# Altium schematic symbol library lab4.SCHLIB: 31 symbols
Pins are listed as number, name and electrical type; pins without a type are passive.

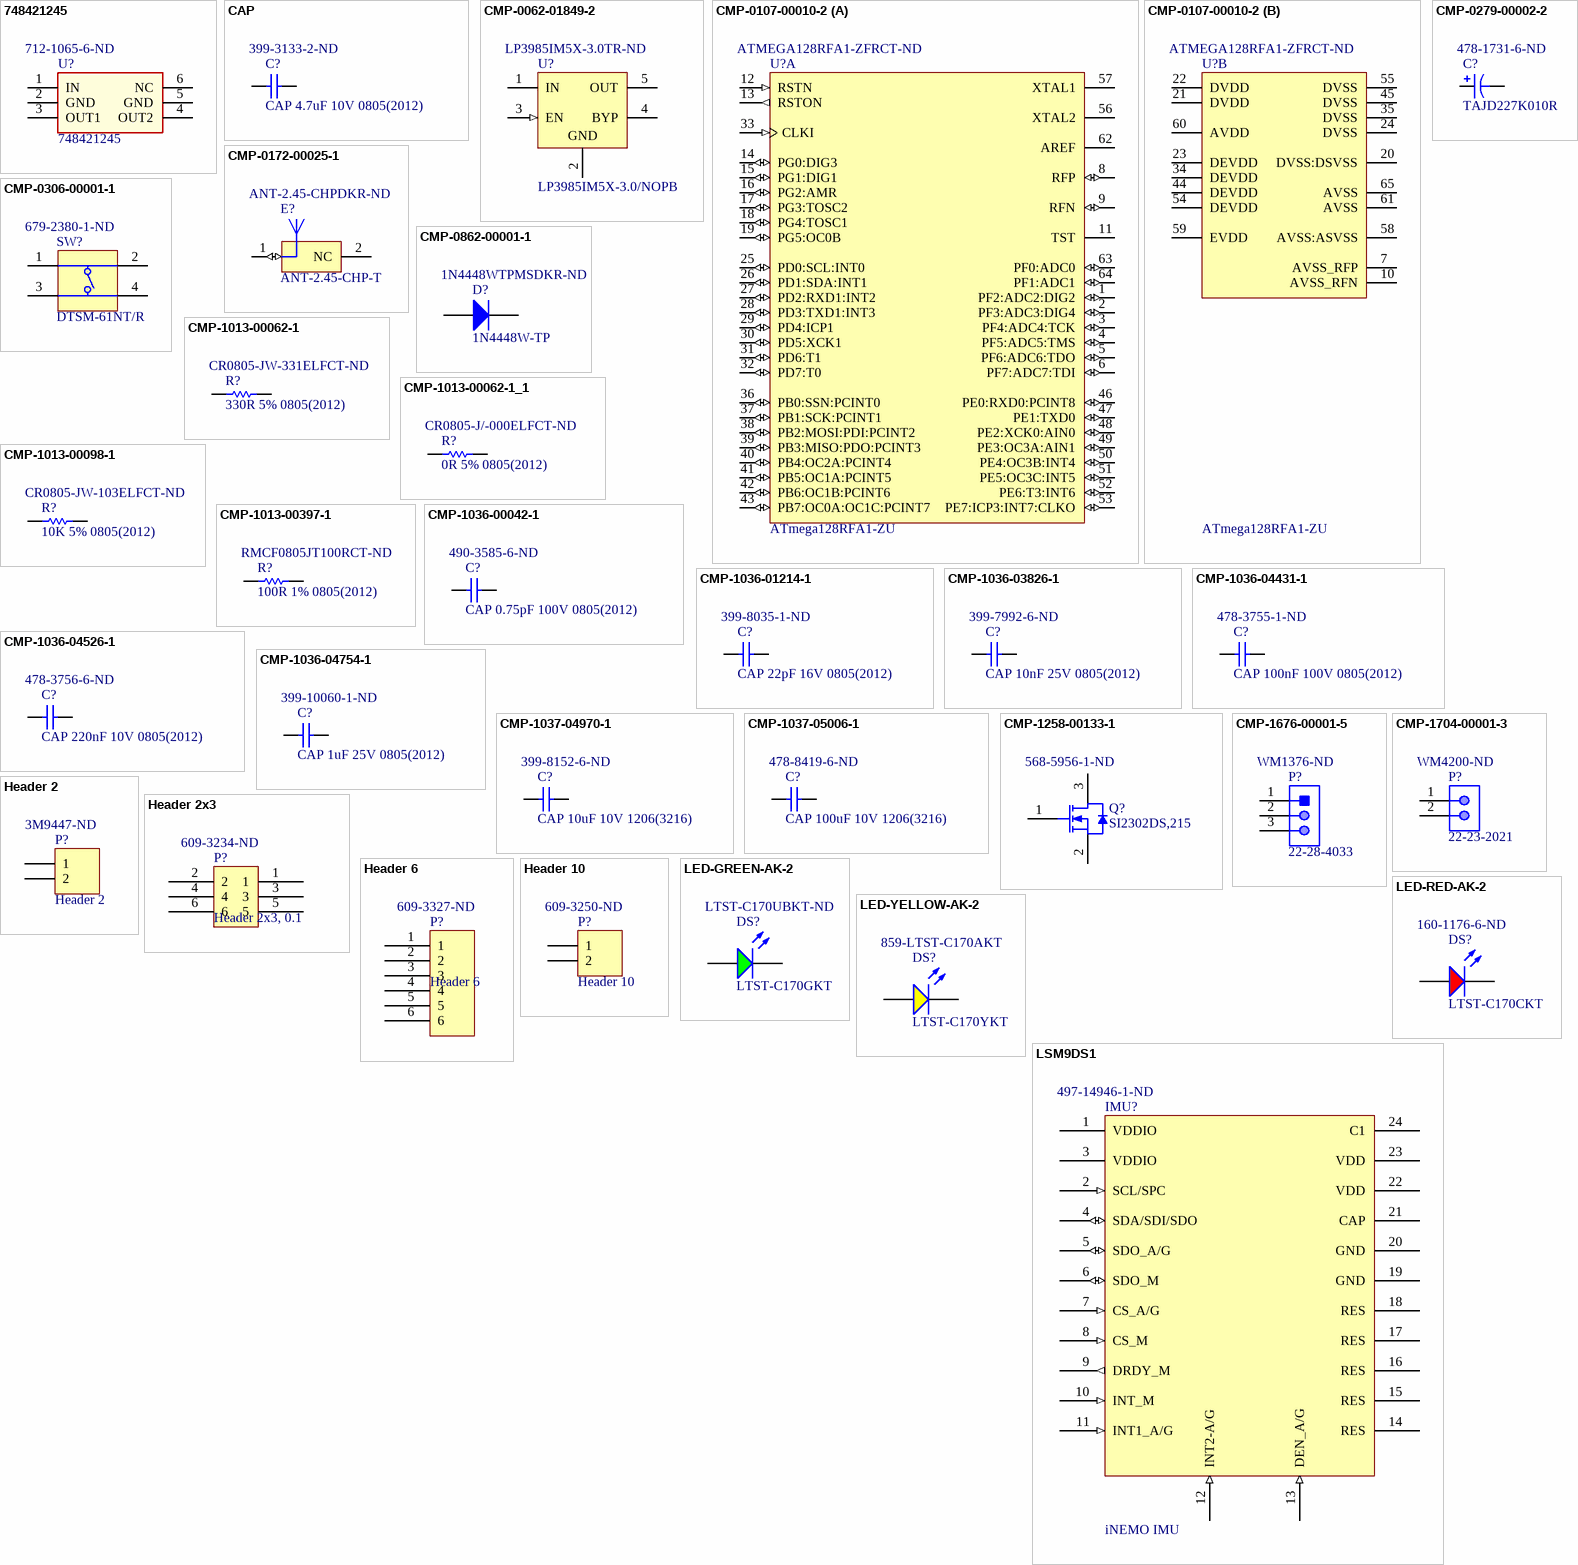
[diagram p0: symbols 748421245 to LSM9DS1]

## 748421245
designator U?  Supplier Part Number 1: 712-1065-6-ND
WE-BAL Multilayer Chip Balun, size 0805; BalancedImpedance: 100Ω; Frequence: 2400-2500MHz; PublishedDate: Aug 2016; Publisher: Wurth Elektronik; ComponentLink1Description: Manufacturer; ComponentLink1URL: http://www.we-online.de; ComponentLink2Description: Datasheet; ComponentLink2URL: http://katalog.we-online.de/pbs/datasheet/748421245.pdf; PartNumber: 748421245; Size: 0805; Supplier 1: Digikey
footprint WE-BAL_0805
pins: 1 IN, 2 GND, 3 OUT1, 4 OUT2, 5 GND, 6 NC

## CAP
designator C?, comment CAP 4.7uF 10V 0805(2012)  Supplier Part Number 1: 399-3133-2-ND
CAP 4.7uF 10V ±10% 0805 (2012 Metric) Thickness 1.55mm SMD; Case-EIA: 0805; Tolerance: Â±10%; Case-Metric: 2012; Rated Voltage: 10 V; Max Thickness: 1.55 mm; Technology: SMT; Value: 4.7uF; Supplier 1: Digikey
footprint CAPC0805(2012)155_L (Chip Capacitor, Body 2.0x1.2mm, Height 1.55mm, IPC High Density)
footprint CAPC0805(2012)155_N (Chip Capacitor, Body 2.0x1.2mm, Height 1.55mm, IPC Medium Density)
footprint CAPC0805(2012)155_M (Chip Capacitor, Body 2.0x1.2mm, Height 1.55mm, IPC Low Density)
pins: 1, 2
1 alternate drawing of the same symbol

## CMP-0062-01849-2
designator U?, comment LP3985IM5X-3.0/NOPB  Supplier Part Number 1: LP3985IM5X-3.0TR-ND
Micropower, 150mA Low-Noise Ultra Low-Dropout CMOS Voltage Regulator, 5-pin SOT-23, Pb-Free; Manufacturer: National Semiconductor; CompType: LDO IC; PowerWise: N; PackageTopMarking: LCRB*XTT; PackageVersion: revD, Aug-2008; DatasheetVersion: Aug-2005; ComponentLink2Description: LP3985 Web Page; RevisionNote: Component URLs added; ComponentLink3Description: MF05A Package Page; ComponentLink2URL: http://www.national.com/pf/LP/LP3985.html; ComponentLink1URL: http://www.national.com/ds/LP/LP3985.pdf; PinCount: 5; PackageDescription: Molded SOT-23, .115 x .063 x .040 in Body, 5 Lead, .0375 in Pitch; ComponentLink1Description: LP3985 Datasheet; RoHS: Y; ComponentLink3URL: http://www.national.com/packaging/folders/mf05a.html; PackageReference: MF05A; Supplier 1: Digikey
footprint MF05A_L (SOT23, 5-Leads, Body 2.9x1.6mm, Pitch 0.95mm, Lead Span 2.8mm, IPC High Density)
footprint MF05A_N (SOT23, 5-Leads, Body 2.9x1.6mm, Pitch 0.95mm, Lead Span 2.8mm, IPC Medium Density)
footprint MF05A_M (SOT23, 5-Leads, Body 2.9x1.6mm, Pitch 0.95mm, Lead Span 2.8mm, IPC Low Density)
pins: 1 IN (power), 2 GND (power), 3 EN (in), 4 BYP, 5 OUT (power)

## CMP-0107-00010-2
designator U?, comment ATmega128RFA1-ZU  Supplier Part Number 1: ATMEGA128RFA1-ZFRCT-ND
8-bit AVR Microcontroller with Low Power 2.4GHz Transceiver for ZigBee and IEEE 802.15.4, 64-Pin VQFN (Sawn) (PI64), Industrial (-40°C to 85°C); Timers: 6; Transmit Current Consumption (mA): 18.6; Power Output (dBm): 3.5; UART: 1; External PA Control: Yes; Receive Current Consumption (mA): 16.6; Max. Operating Frequency: 16 MHz; Max I/O Pins: 38; ADC Resolution (bits): 10; Max Data Rate (Mb/s): 2; ADC channels: 8; Operating Voltage (Vcc): 1.8 to 3.6; Receiver Sensitivity (dBm): -100; Crypto Engine: AES; Flash (Kbytes): 128 Kbytes; EEPROM (Bytes): 4096; SRAM (Kbytes): 16; Link Budget (dBm): 103.5; PackageDescription: 64-Pin Quad Flat No-Lead (QFN), 9 x 9 mm Body, 0.5 mm Pitch, 5.65 x 4.75 mm Exposed Pad; Frequency Band: 2.4 GHz; PackageReference: 64PI; PackageVersion: revA, Feb-2008; RevisionNote: Updated to Oct-2011 datasheet, symbol revised, parameters added; ComponentLink1Description: Manufacturer URL; ComponentLink2URL: http://www.atmel.com/Images/doc8266.pdf; ComponentLink2Description: Datasheet; ComponentLink1URL: http://www.atmel.com/; SPI: 1; DatasheetVersion: rev C, Oct-2011; Antenna Diversity: Yes; Analog Comparators: 1; TWI (I2C): 1; PartId: 1; Supplier 1: Digikey
footprint 64PI_N (QFN, 64-Leads, Body 9x9mm, Pitch 0.5mm, Thermal Pad 5.8x4.9mm, IPC Medium Density)
footprint 64PI_M (QFN, 64-Leads, Body 9x9mm, Pitch 0.5mm, Thermal Pad 5.8x4.9mm, IPC Low Density)
footprint 64PI_L (QFN, 64-Leads, Body 9x9mm, Pitch 0.5mm, Thermal Pad 5.8x4.9mm, IPC High Density)
part A pins: 1 PF2:ADC2:DIG2 (io) "Port F is an 8-bit bi-directional I/O port with internal pull-up resistors (selected for each bit). The Port F output buffers have symmetrical drive characteristics with both high sink and source capability. As inputs, Port F pins that are externally pul", 2 PF3:ADC3:DIG4 (io) "Port F is an 8-bit bi-directional I/O port with internal pull-up resistors (selected for each bit). The Port F output buffers have symmetrical drive characteristics with both high sink and source capability. As inputs, Port F pins that are externally pul", 3 PF4:ADC4:TCK (io) "Port F is an 8-bit bi-directional I/O port with internal pull-up resistors (selected for each bit). The Port F output buffers have symmetrical drive characteristics with both high sink and source capability. As inputs, Port F pins that are externally pul", 4 PF5:ADC5:TMS (io) "Port F is an 8-bit bi-directional I/O port with internal pull-up resistors (selected for each bit). The Port F output buffers have symmetrical drive characteristics with both high sink and source capability. As inputs, Port F pins that are externally pul", 5 PF6:ADC6:TDO (io) "Port F is an 8-bit bi-directional I/O port with internal pull-up resistors (selected for each bit). The Port F output buffers have symmetrical drive characteristics with both high sink and source capability. As inputs, Port F pins that are externally pul", 6 PF7:ADC7:TDI (io) "Port F is an 8-bit bi-directional I/O port with internal pull-up resistors (selected for each bit). The Port F output buffers have symmetrical drive characteristics with both high sink and source capability. As inputs, Port F pins that are externally pul", 8 RFP (io) "RFP is the positive terminal for the bi-directional, differential RF I/O port", 9 RFN (io) "RFN is the negative terminal for the bi-directional, differential RF I/O port.", 11 TST "Programming and test mode enable pin. If pin TST is not used pull it to low.", 12 RSTN (in) "Reset input. A low level on this pin for longer than the minimum pulse length will generate a reset, even if the clock is not running. Shorter pulses are not guaranteed to generate a reset.", 13 RSTON (out) "Reset output. A low level on this pin indicates a reset initiated by the internal reset sources or the pin RSTN.", 14 PG0:DIG3 (io) "Port G is a 6-bit bi-directional I/O port with internal pull-up resistors (selected for each bit). The Port G output buffers have symmetrical drive characteristics with both high sink and source capability. However the driver strength of PG3 and PG4 is r", 15 PG1:DIG1 (io) "Port G is a 6-bit bi-directional I/O port with internal pull-up resistors (selected for each bit). The Port G output buffers have symmetrical drive characteristics with both high sink and source capability. However the driver strength of PG3 and PG4 is r", 16 PG2:AMR (io) "Port G is a 6-bit bi-directional I/O port with internal pull-up resistors (selected for each bit). The Port G output buffers have symmetrical drive characteristics with both high sink and source capability. However the driver strength of PG3 and PG4 is r", 17 PG3:TOSC2 (io) "Port G is a 6-bit bi-directional I/O port with internal pull-up resistors (selected for each bit). The Port G output buffers have symmetrical drive characteristics with both high sink and source capability. However the driver strength of PG3 and PG4 is r", 18 PG4:TOSC1 (io) "Port G is a 6-bit bi-directional I/O port with internal pull-up resistors (selected for each bit). The Port G output buffers have symmetrical drive characteristics with both high sink and source capability. However the driver strength of PG3 and PG4 is r", 19 PG5:OC0B (io) "Port G is a 6-bit bi-directional I/O port with internal pull-up resistors (selected for each bit). The Port G output buffers have symmetrical drive characteristics with both high sink and source capability. However the driver strength of PG3 and PG4 is r", 25 PD0:SCL:INT0 (io) "Port D is an 8-bit bi-directional I/O port with internal pull-up resistors (selected for each bit). The Port D output buffers have symmetrical drive characteristics with both high sink and source capability. As inputs, Port D pins that are externally pul", 26 PD1:SDA:INT1 (io) "Port D is an 8-bit bi-directional I/O port with internal pull-up resistors (selected for each bit). The Port D output buffers have symmetrical drive characteristics with both high sink and source capability. As inputs, Port D pins that are externally pul", 27 PD2:RXD1:INT2 (io) "Port D is an 8-bit bi-directional I/O port with internal pull-up resistors (selected for each bit). The Port D output buffers have symmetrical drive characteristics with both high sink and source capability. As inputs, Port D pins that are externally pul", 28 PD3:TXD1:INT3 (io) "Port D is an 8-bit bi-directional I/O port with internal pull-up resistors (selected for each bit). The Port D output buffers have symmetrical drive characteristics with both high sink and source capability. As inputs, Port D pins that are externally pul", 29 PD4:ICP1 (io) "Port D is an 8-bit bi-directional I/O port with internal pull-up resistors (selected for each bit). The Port D output buffers have symmetrical drive characteristics with both high sink and source capability. As inputs, Port D pins that are externally pul", 30 PD5:XCK1 (io) "Port D is an 8-bit bi-directional I/O port with internal pull-up resistors (selected for each bit). The Port D output buffers have symmetrical drive characteristics with both high sink and source capability. As inputs, Port D pins that are externally pul", 31 PD6:T1 (io) "Port D is an 8-bit bi-directional I/O port with internal pull-up resistors (selected for each bit). The Port D output buffers have symmetrical drive characteristics with both high sink and source capability. As inputs, Port D pins that are externally pul", 32 PD7:T0 (io) "Port D is an 8-bit bi-directional I/O port with internal pull-up resistors (selected for each bit). The Port D output buffers have symmetrical drive characteristics with both high sink and source capability. As inputs, Port D pins that are externally pul", 33 CLKI (in) "Input to the clock system. If selected, it provides the operating clock of the microcontroller.", 36 PB0:SSN:PCINT0 (io) "Port B is an 8-bit bi-directional I/O port with internal pull-up resistors (selected for each bit). The Port B output buffers have symmetrical drive characteristics with both high sink and source capability. As inputs, Port B pins that are externally pul", 37 PB1:SCK:PCINT1 (io) "Port B is an 8-bit bi-directional I/O port with internal pull-up resistors (selected for each bit). The Port B output buffers have symmetrical drive characteristics with both high sink and source capability. As inputs, Port B pins that are externally pul", 38 PB2:MOSI:PDI:PCINT2 (io) "Port B is an 8-bit bi-directional I/O port with internal pull-up resistors (selected for each bit). The Port B output buffers have symmetrical drive characteristics with both high sink and source capability. As inputs, Port B pins that are externally pul", 39 PB3:MISO:PDO:PCINT3 (io) "Port B is an 8-bit bi-directional I/O port with internal pull-up resistors (selected for each bit). The Port B output buffers have symmetrical drive characteristics with both high sink and source capability. As inputs, Port B pins that are externally pul", 40 PB4:OC2A:PCINT4 (io) "Port B is an 8-bit bi-directional I/O port with internal pull-up resistors (selected for each bit). The Port B output buffers have symmetrical drive characteristics with both high sink and source capability. As inputs, Port B pins that are externally pul", 41 PB5:OC1A:PCINT5 (io) "Port B is an 8-bit bi-directional I/O port with internal pull-up resistors (selected for each bit). The Port B output buffers have symmetrical drive characteristics with both high sink and source capability. As inputs, Port B pins that are externally pul", 42 PB6:OC1B:PCINT6 (io) "Port B is an 8-bit bi-directional I/O port with internal pull-up resistors (selected for each bit). The Port B output buffers have symmetrical drive characteristics with both high sink and source capability. As inputs, Port B pins that are externally pul", 43 PB7:OC0A:OC1C:PCINT7 (io) "Port B is an 8-bit bi-directional I/O port with internal pull-up resistors (selected for each bit). The Port B output buffers have symmetrical drive characteristics with both high sink and source capability. As inputs, Port B pins that are externally pul", 46 PE0:RXD0:PCINT8 (io) "Port E is an 8-bit bi-directional I/O port with internal pull-up resistors (selected for each bit). The Port E output buffers have symmetrical drive characteristics with both high sink and source capability. As inputs, Port E pins that are externally pul", 47 PE1:TXD0 (io) "Port E is an 8-bit bi-directional I/O port with internal pull-up resistors (selected for each bit). The Port E output buffers have symmetrical drive characteristics with both high sink and source capability. As inputs, Port E pins that are externally pul", 48 PE2:XCK0:AIN0 (io) "Port E is an 8-bit bi-directional I/O port with internal pull-up resistors (selected for each bit). The Port E output buffers have symmetrical drive characteristics with both high sink and source capability. As inputs, Port E pins that are externally pul", 49 PE3:OC3A:AIN1 (io) "Port E is an 8-bit bi-directional I/O port with internal pull-up resistors (selected for each bit). The Port E output buffers have symmetrical drive characteristics with both high sink and source capability. As inputs, Port E pins that are externally pul", 50 PE4:OC3B:INT4 (io) "Port E is an 8-bit bi-directional I/O port with internal pull-up resistors (selected for each bit). The Port E output buffers have symmetrical drive characteristics with both high sink and source capability. As inputs, Port E pins that are externally pul", 51 PE5:OC3C:INT5 (io) "Port E is an 8-bit bi-directional I/O port with internal pull-up resistors (selected for each bit). The Port E output buffers have symmetrical drive characteristics with both high sink and source capability. As inputs, Port E pins that are externally pul", 52 PE6:T3:INT6 (io) "Port E is an 8-bit bi-directional I/O port with internal pull-up resistors (selected for each bit). The Port E output buffers have symmetrical drive characteristics with both high sink and source capability. As inputs, Port E pins that are externally pul", 53 PE7:ICP3:INT7:CLKO (io) "Port E is an 8-bit bi-directional I/O port with internal pull-up resistors (selected for each bit). The Port E output buffers have symmetrical drive characteristics with both high sink and source capability. As inputs, Port E pins that are externally pul", 56 XTAL2 "Output of the inverting 16MHz crystal oscillator amplifier.", 57 XTAL1 "Input to the inverting 16MHz crystal oscillator amplifier. In general a crystal between XTAL1 and XTAL2 provides the 16MHz reference clock of the radio transceiver.", 62 AREF "Reference voltage output of the A/D Converter. In general this pin is left open.", 63 PF0:ADC0 (io) "Port F is an 8-bit bi-directional I/O port with internal pull-up resistors (selected for each bit). The Port F output buffers have symmetrical drive characteristics with both high sink and source capability. As inputs, Port F pins that are externally pul", 64 PF1:ADC1 (io) "Port F is an 8-bit bi-directional I/O port with internal pull-up resistors (selected for each bit). The Port F output buffers have symmetrical drive characteristics with both high sink and source capability. As inputs, Port F pins that are externally pul"
part B pins: 7 AVSS_RFP (power) "AVSS_RFP is a dedicated ground pin for the bi-directional, differential RF I/O port.", 10 AVSS_RFN (power) "AVSS_RFN is a dedicated ground pin for the bi-directional, differential RF I/O port.", 20 DVSS:DSVSS (power) "Digital ground", 21 DVDD (power) "Regulated digital supply voltage (internally generated).", 22 DVDD (power) "Regulated digital supply voltage (internally generated).", 23 DEVDD (power) "External digital supply voltage.", 24 DVSS (power) "Digital ground.", 34 DEVDD (power) "External digital supply voltage.", 35 DVSS (power) "Digital ground.", 44 DEVDD (power) "External digital supply voltage.", 45 DVSS (power) "Digital ground.", 54 DEVDD (power) "External digital supply voltage.", 55 DVSS (power) "Digital ground.", 58 AVSS:ASVSS (power) "Analog ground.", 59 EVDD (power) "External analog supply voltage.", 60 AVDD (power) "Regulated analog supply voltage (internally generated).", 61 AVSS (power) "Analog ground.", 65 AVSS (power) "Exposed paddle"

## CMP-0172-00025-1
designator E?, comment ANT-2.45-CHP-T  Supplier Part Number 1: ANT-2.45-CHPDKR-ND
1/4-wave Monopole Ultra-Compact Chip Antenna, CHP Series, 2.4GHz, Tape and Reel; Note2: Pin 1 is feed terminal, Pin 2 is for physical support only.; PCB_Layout: Complies with manufacturer's recommendation.; Note1: No ground planes or traces under the antenna; PackageDescription: SMD Ceramic Antenna, CHP Series, 2.45MHz, 2-Leads, 6.5 x 2.2 x 1.0 mm Body; PackageReference: ANT-2.4-CHP; PackageVersion: Jan-2009; DatasheetVersion: Jan-2009; Supplier 1: Digikey
footprint ANT-2.4-CHP (SM Antenna, 2-Lead, Body 6.5x2.2x1.0mm)
pins: 1 FEED (io), 2 NC

## CMP-0279-00002-2
designator C?, comment TAJD227K010R  Supplier Part Number 1: 478-1731-6-ND
Capacitor, Tantalum, 220uF 10% 10V MCCT-D (7343-31); Manufacturer: AVX; Polarity: Polarized; Tolerance: 10%; Rated Voltage: 10V; Technology: Tantalum; ComponentLink2Description: Datasheet; PartNumber: TAJD227K010R; ComponentLink2URL: http://www.avx.com/docs/Catalogs/taj.pdf; ComponentLink1URL: http://www.avx.com/; ComponentLink1Description: Manufacturer URL; Capacitance: 220uF; PackageDescription: 2-Pin SMT Capacitor, 7.3 x 4.3 mm Body; Mounting Technology: Surface Mount; DatasheetVersion: Jul-13; PackageReference: CAPC7343; Supplier 1: Digikey
footprint AVX-CAPC7343_V (SMT Capacitor, 2 Leads, Body 7.3x4.3mm)
pins: 1, 2

## CMP-0306-00001-1
designator SW?, comment DTSM-61NT/R  Supplier Part Number 1: 679-2380-1-ND
Switch, SPNO Push Button SMD; Manufacturer: Diptronics; Packing Type: Tape&Reel; Mechanical Life: 200,000 cycles; ComponentLink2URL: http://www.dip.com.tw/Products_tact.htm; ComponentLink1URL: http://www.dip.com.tw/; ComponentLink3URL: http://www.dip.com.tw/PDF/pro_tact/DTSM_G_-6_2_-V.pdf; PackageDescription: Switch, Through-Hole, 4 Leads, Body 8.5x8.5mm, Row Spacing 9.0mm, Pitch 4.5mm; ComponentLink2Description: Datasheet; ComponentLink3Description: Package Specification; ComponentLink1Description: Manufacturer URL; PackageReference: DTSM-6; PartNumber: DTSM-61NT/R; Mounting Technology: Through Hole; Supplier 1: Digikey
footprint DIPT-DTSM-6_V (Switch, Through-Hole, 4 Leads, Body 8.5x8.5mm, Row Spacing 9.0mm, Pitch 4.5mm)
pins: 1 T1, 2 T2, 3 T3, 4 T3

## CMP-0862-00001-1
designator D?, comment 1N4448W-TP  Supplier Part Number 1: 1N4448WTPMSDKR-ND
Switching Diode, 500 mW, 100 V, -55 to 150 degC, SOD123, RoHS, Tape and Reel; Manufacturer: Micro Commercial Components; FV: 1 V Max.; Trr: 4 nS; IF (AV): 250 mA; VRM (PRV): 100 V; PD: 500 mW; Typical Junction Capacitance: 4 pF; IR: 25 nA; ComponentLink1Description: Manufacturer URL; PackageVersion: Rev. C; ComponentLink2URL: http://www.mccsemi.com/up_pdf/1N4448W(SOD-123).pdf; DatasheetVersion: Rev. C; ComponentLink3Description: Package Specification; PackageDescription: 2-Pin SOD123, Body 2.7 x 1.6 mm, Height 1.35 mm; ComponentLink3URL: http://www.mccsemi.com/up_pdf/1N4448W(SOD-123).pdf; Operating Temperature Range: -55 to 150 degC; PackageReference: SOD123; PartNumber: 1N4448W-TP; Packing: Tape and Reel; ComponentLink1URL: http://www.mccsemi.com/; RoHS: TRUE; ComponentLink2Description: Datasheet; Mounting Technology: Surface Mount; Supplier 1: Digikey
footprint MCC-SOD123_V (SOD123, 2-Leads, Body 2.7x1.6mm, Height 1.35mm)
pins: 1 A, 2 K

## CMP-1013-00062-1
designator R?, comment 330R 5% 0805(2012)  Supplier Part Number 1: CR0805-JW-331ELFCT-ND
330R 0.125W 5% 0805 (2012 Metric)  SMD; Value: 330.00 Ohm; Case-EIA: 0805; Case-Metric: 2012; Tolerance: 5 %; Power: 0.125 W; Technology: SMT; Supplier 1: Digikey
footprint RESC0805(2012)_L (Chip Resistor, Body 2.0x1.3mm, IPC High Density)
footprint RESC0805(2012)_N (Chip Resistor, Body 2.0x1.3mm, IPC Medium Density)
footprint RESC0805(2012)_M (Chip Resistor, Body 2.0x1.3mm, IPC Low Density)
pins: 1, 2
1 alternate drawing of the same symbol

## CMP-1013-00062-1_1
designator R?, comment 0R 5% 0805(2012)  Supplier Part Number 1: CR0805-J/-000ELFCT-ND
0R 0.125W 5% 0805 (2012 Metric)  SMD; Value: 0; Case-EIA: 0805; Case-Metric: 2012; Tolerance: 5 %; Power: 0.125 W; Technology: SMT; Supplier 1: Digikey
footprint RESC0805(2012)_L (Chip Resistor, Body 2.0x1.3mm, IPC High Density)
footprint RESC0805(2012)_N (Chip Resistor, Body 2.0x1.3mm, IPC Medium Density)
footprint RESC0805(2012)_M (Chip Resistor, Body 2.0x1.3mm, IPC Low Density)
pins: 1, 2
1 alternate drawing of the same symbol

## CMP-1013-00098-1
designator R?, comment 10K 5% 0805(2012)  Supplier Part Number 1: CR0805-JW-103ELFCT-ND
10K 0.125W 5% 0805 (2012 Metric)  SMD; Case-EIA: 0805; Case-Metric: 2012; Value: 10000.00 Ohm; Power: 0.125 W; Technology: SMT; Tolerance: 5 %; Supplier 1: Digikey
footprint RESC0805(2012)_L (Chip Resistor, Body 2.0x1.3mm, IPC High Density)
footprint RESC0805(2012)_M (Chip Resistor, Body 2.0x1.3mm, IPC Low Density)
footprint RESC0805(2012)_N (Chip Resistor, Body 2.0x1.3mm, IPC Medium Density)
pins: 1, 2
1 alternate drawing of the same symbol

## CMP-1013-00397-1
designator R?, comment 100R 1% 0805(2012)  Supplier Part Number 1: RMCF0805JT100RCT-ND
100R 0.125W 1% 0805 (2012 Metric)  SMD; Value: 100.00 Ohm; Case-Metric: 2012; Case-EIA: 0805; Technology: SMT; Power: 0.125 W; Tolerance: 1 %; Supplier 1: Digikey
footprint RESC0805(2012)_L (Chip Resistor, Body 2.0x1.3mm, IPC High Density)
footprint RESC0805(2012)_N (Chip Resistor, Body 2.0x1.3mm, IPC Medium Density)
footprint RESC0805(2012)_M (Chip Resistor, Body 2.0x1.3mm, IPC Low Density)
pins: 1, 2
1 alternate drawing of the same symbol

## CMP-1036-00042-1
designator C?, comment CAP 0.75pF 100V 0805(2012)  Supplier Part Number 1: 490-3585-6-ND
CAP 0.75pF 100V ±0.5pF 0805 (2012 Metric) Thickness 1mm SMD; Case-EIA: 0805; Tolerance: Â±0.5pF; Case-Metric: 2012; Max Thickness: 1 mm; Technology: SMT; Rated Voltage: 100 V; Value: 0.75pF; Supplier 1: Digikey
footprint CAPC0805(2012)100_L (Chip Capacitor, Body 2.0x1.2mm, Height 1.0mm, IPC High Density)
footprint CAPC0805(2012)100_N (Chip Capacitor, Body 2.0x1.2mm, Height 1.0mm, IPC Medium Density)
footprint CAPC0805(2012)100_M (Chip Capacitor, Body 2.0x1.2mm, Height 1.0mm, IPC Low Density)
pins: 1, 2
1 alternate drawing of the same symbol

## CMP-1036-01214-1
designator C?, comment CAP 22pF 16V 0805(2012)  Supplier Part Number 1: 399-8035-1-ND
CAP 22pF 16V ±0.25pF 0805 (2012 Metric) Thickness 1mm SMD; Case-EIA: 0805; Tolerance: Â±0.25pF; Case-Metric: 2012; Technology: SMT; Value: 22pF; Max Thickness: 1 mm; Rated Voltage: 16 V; Supplier 1: Digikey
footprint CAPC0805(2012)100_L (Chip Capacitor, Body 2.0x1.2mm, Height 1.0mm, IPC High Density)
footprint CAPC0805(2012)100_M (Chip Capacitor, Body 2.0x1.2mm, Height 1.0mm, IPC Low Density)
footprint CAPC0805(2012)100_N (Chip Capacitor, Body 2.0x1.2mm, Height 1.0mm, IPC Medium Density)
pins: 1, 2
1 alternate drawing of the same symbol

## CMP-1036-03826-1
designator C?, comment CAP 10nF 25V 0805(2012)  Supplier Part Number 1: 399-7992-6-ND
CAP 10nF 25V ±2% 0805 (2012 Metric) Thickness 1mm SMD; Tolerance: Â±2%; Case-EIA: 0805; Case-Metric: 2012; Technology: SMT; Rated Voltage: 25 V; Value: 10nF; Max Thickness: 1 mm; Supplier 1: Digikey
footprint CAPC0805(2012)100_L (Chip Capacitor, Body 2.0x1.2mm, Height 1.0mm, IPC High Density)
footprint CAPC0805(2012)100_N (Chip Capacitor, Body 2.0x1.2mm, Height 1.0mm, IPC Medium Density)
footprint CAPC0805(2012)100_M (Chip Capacitor, Body 2.0x1.2mm, Height 1.0mm, IPC Low Density)
pins: 1, 2
1 alternate drawing of the same symbol

## CMP-1036-04431-1
designator C?, comment CAP 100nF 100V 0805(2012)  Supplier Part Number 1: 478-3755-1-ND
CAP 100nF 100V ±20% 0805 (2012 Metric) Thickness 1.45mm SMD; Case-Metric: 2012; Tolerance: Â±20%; Case-EIA: 0805; Value: 100nF; Technology: SMT; Rated Voltage: 100 V; Max Thickness: 1.45 mm; Supplier 1: Digikey
footprint CAPC0805(2012)145_N (Chip Capacitor, Body 2.0x1.2mm, Height 1.45mm, IPC Medium Density)
footprint CAPC0805(2012)145_M (Chip Capacitor, Body 2.0x1.2mm, Height 1.45mm, IPC Low Density)
footprint CAPC0805(2012)145_L (Chip Capacitor, Body 2.0x1.2mm, Height 1.45mm, IPC High Density)
pins: 1, 2
1 alternate drawing of the same symbol

## CMP-1036-04526-1
designator C?, comment CAP 220nF 10V 0805(2012)  Supplier Part Number 1: 478-3756-6-ND
CAP 220nF 10V ±20% 0805 (2012 Metric) Thickness 0.75mm SMD; Tolerance: Â±20%; Case-EIA: 0805; Case-Metric: 2012; Rated Voltage: 10 V; Max Thickness: 0.75 mm; Technology: SMT; Value: 220nF; Supplier 1: Digikey
footprint CAPC0805(2012)75_N (Chip Capacitor, Body 2.0x1.2mm, Height 0.75mm, IPC Medium Density)
footprint CAPC0805(2012)75_M (Chip Capacitor, Body 2.0x1.2mm, Height 0.75mm, IPC Low Density)
footprint CAPC0805(2012)75_L (Chip Capacitor, Body 2.0x1.2mm, Height 0.75mm, IPC High Density)
pins: 1, 2
1 alternate drawing of the same symbol

## CMP-1036-04754-1
designator C?, comment CAP 1uF 25V 0805(2012)  Supplier Part Number 1: 399-10060-1-ND
CAP 1uF 25V ±10% 0805 (2012 Metric) Thickness 1mm SMD; Case-EIA: 0805; Case-Metric: 2012; Tolerance: Â±10%; Max Thickness: 1 mm; Value: 1uF; Rated Voltage: 25 V; Technology: SMT; Supplier 1: Digikey
footprint CAPC0805(2012)100_M (Chip Capacitor, Body 2.0x1.2mm, Height 1.0mm, IPC Low Density)
footprint CAPC0805(2012)100_N (Chip Capacitor, Body 2.0x1.2mm, Height 1.0mm, IPC Medium Density)
footprint CAPC0805(2012)100_L (Chip Capacitor, Body 2.0x1.2mm, Height 1.0mm, IPC High Density)
pins: 1, 2
1 alternate drawing of the same symbol

## CMP-1037-04970-1
designator C?, comment CAP 10uF 10V 1206(3216)  Supplier Part Number 1: 399-8152-6-ND
CAP 10uF 10V -20% to +80% 1206 (3216 Metric) Thickness 1.3mm SMD; Case-Metric: 3216; Case-EIA: 1206; Value: 10uF; Rated Voltage: 10 V; Technology: SMT; Max Thickness: 1.3 mm; Tolerance: -20% to +80%; Supplier 1: Digikey
footprint CAPC1206(3216)130_L (Chip Capacitor, Body 3.2x1.6mm, Height 1.3mm, IPC High Density)
footprint CAPC1206(3216)130_M (Chip Capacitor, Body 3.2x1.6mm, Height 1.3mm, IPC Low Density)
footprint CAPC1206(3216)130_N (Chip Capacitor, Body 3.2x1.6mm, Height 1.3mm, IPC Medium Density)
pins: 1, 2
1 alternate drawing of the same symbol

## CMP-1037-05006-1
designator C?, comment CAP 100uF 10V 1206(3216)  Supplier Part Number 1: 478-8419-6-ND
CAP 100uF 10V ±20% 1206 (3216 Metric) Thickness 1.9mm SMD; Case-EIA: 1206; Tolerance: Â±20%; Case-Metric: 3216; Max Thickness: 1.9 mm; Technology: SMT; Rated Voltage: 10 V; Value: 100uF; Supplier 1: Digikey
footprint CAPC1206(3216)190_L (Chip Capacitor, Body 3.2x1.6mm, Height 1.9mm, IPC High Density)
footprint CAPC1206(3216)190_M (Chip Capacitor, Body 3.2x1.6mm, Height 1.9mm, IPC Low Density)
footprint CAPC1206(3216)190_N (Chip Capacitor, Body 3.2x1.6mm, Height 1.9mm, IPC Medium Density)
pins: 1, 2
1 alternate drawing of the same symbol

## CMP-1258-00133-1
designator Q?, comment SI2302DS,215  Supplier Part Number 1: 568-5956-1-ND
N-Channel Enhancement Mode Field-Effect Transistor, 20 V, 2.5 A, 3-Pin SOT23, Tape and Reel; Manufacturer: NXP Semiconductors; Ciss [typ] (pF): 230; VDS [max] (V): 20; Channel Type: N; Coss [typ] (pF): 125; ID [max] (A): 2.5; Packing: Tape & Reel; DatasheetVersion: Rev. 02; PackageVersion: 06-03-16, 03/2006; Code_JEDEC: TO-236AB; ComponentLink3Description: Package Specification; PartNumber: SI2302DS,215; ComponentLink2URL: http://www.nxp.com/documents/data_sheet/SI2302DS.pdf; PackageDescription: 3-Pin Small Outline Transistor Package, Body 2.9 x 1.3 mm, Pitch 0.95 mm; ComponentLink2Description: Datasheet; ComponentLink1Description: Manufacturer URL; Mounting Technology: Surface Mount; ComponentLink1URL: http://www.nxp.com/; ComponentLink3URL: http://www.nxp.com/documents/outline_drawing/sot023_po.pdf; PackageReference: SOT23; Supplier 1: Digikey
footprint NXP-SOT23_N (SOT23, 3-Leads, Body 3x1.4mm, Pitch 0.95mm, IPC Medium Density)
footprint NXP-SOT23_L (SOT23, 3-Leads, Body 3x1.4mm, Pitch 0.95mm, IPC High Density)
footprint NXP-SOT23_M (SOT23, 3-Leads, Body 3x1.4mm, Pitch 0.95mm, IPC Low Density)
pins: 1 G "gate", 2 S "source", 3 D "drain"

## CMP-1676-00001-5
designator P?, comment 22-28-4033  Supplier Part Number 1: WM1376-ND
Male Header, Pitch 2.54 mm, 1 x 3 Position, Height 8.38 mm, Tail Length 3.18 mm, RoHS, Bulk; Manufacturer: Molex; Rows: 1; Voltage Rating: 250 V; Current Rating: 4 A; Min Operating Temperature: 0 degC; Lead Pitch: 0.1 inch; Packaging: Bulk; Contact Finish: Gold; RoHSCompliant: true; Contact Material: Brass; PackageReference: 22-28-4033; REACH SVHC: Unknown; PackageDescription: Male Header, Pitch 2.54 mm, 1 x 3 Position, Height 8.38 mm, Tail Length 3.18 mm; ComponentLink2URL: http://www.molex.com/pdm_docs/sd/022284033_sd.pdf; Height: 8.38 mm; Mounting Technology: Through Hole; ComponentLink1Description: Manufacturer URL; Length: 7.62 mm; Mount: Through Hole; DatasheetVersion: Rev. G, 01/2012; Max Operating Temperature: 75 degC; ComponentLink2Description: Datasheet; Colour: Black; Pins: 3; Contact Plating: Gold; Package Quantity: 1; ComponentLink1URL: http://www.molex.com/; Supplier 1: Digikey
footprint MOLX-22-28-4033_V (THD, 3-Leads, Body 7.62x2.49mm, Pitch 2.54mm)
pins: 1, 2, 3

## CMP-1704-00001-3
designator P?, comment 22-23-2021  Supplier Part Number 1: WM4200-ND
Male Header, Pitch 2.54 mm, 1 x 2 Position, Height 10.67 mm, Tail Length 3.56 mm, 0 to 75 degC, RoHS, Bulk; Package Quantity: 3000; Height: 10.67 mm; RoHSCompliant: True; ComponentLink2URL: https://datasheet.ciiva.com/19454/232266-19454304.pdf; PartNumber: 22-23-2021; Packaging: Bulk; ComponentLink2Description: Datasheet; Min Operating Temperature: 0 degC; ComponentLink1Description: Manufacturer URL; Length: 5.08 mm; Mounting Technology: Through Hole; Max Operating Temperature: 75 degC; REACH SVHC: Unknown; PackageDescription: Male Header, Pitch 2.54 mm, 1 x 2 Position, Height 10.67 mm, Tail Length 3.56 mm; ComponentLink1URL: http://www.molex.com/; Mount: Through Hole; Radiation Hardening: No; Width: 6.35 mm; Pins: 2; Supplier 1: Digikey
footprint MOLX-22-23-2021_V (THD, 2-Leads, Body 6.35x4.93mm, Pitch 2.54mm)
pins: 1, 2

## Header 2
designator P?  Supplier Part Number 1: 3M9447-ND
Header, 2-Pin; LatestRevisionDate: 17-Jul-2002; LatestRevisionNote: Re-released for DXP Platform.; Publisher: Altium Limited; Supplier 1: Digikey
footprint HDR1X2 (Connector; Header; 2 Position)
signal-integrity model Connector
pins: 1, 2

## Header 2x3
designator P?, comment Header 2x3, 0.1  Supplier Part Number 1: 609-3234-ND
Header, 2x3-Pin; LatestRevisionDate: 17-Jul-2002; LatestRevisionNote: Re-released for DXP Platform.; Publisher: Altium Limited; Supplier 1: Digikey
footprint HDR2X3
signal-integrity model Connector
pins: 1, 2, 3, 4, 5, 6

## Header 6
designator P?  Supplier Part Number 1: 609-3327-ND
Header, 6-Pin; LatestRevisionDate: 17-Jul-2002; LatestRevisionNote: Re-released for DXP Platform.; Publisher: Altium Limited; Supplier 1: Digikey
footprint HDR1X6
signal-integrity model Connector
pins: 1, 2, 3, 4, 5, 6

## Header 10
designator P?  Supplier Part Number 1: 609-3250-ND
Header, 10-Pin; LatestRevisionDate: 17-Jul-2002; LatestRevisionNote: Re-released for DXP Platform.; Publisher: Altium Limited; Supplier 1: Digikey
footprint HDR1X10
signal-integrity model Connector
pins: 1, 2

## LED-GREEN-AK-2
designator DS?, comment LTST-C170GKT  Supplier Part Number 1: LTST-C170UBKT-ND
LED Uni-Color Green, 100 mW, 120 mA, -55 to 85 degC, 2-Pin SMD, RoHS, Tape and Reel; Manufacturer: Lite-On; ComponentLink1URL: http://www.us.liteon.com/; Height: 1.1 mm; PackageDescription: 2-Pin Surface Mount Device, Body 2 x 1.25 mm; RoHSCompliant: true; Package Quantity: 1; Packaging: Tape and Reel; Mount: Surface Mount; Min Operating Temperature: -55 degC; DatasheetVersion: 03/2003; Max Operating Temperature: 85 degC; ComponentLink1Description: Manufacturer URL; Pins: 2; Mounting Technology: Surface Mount; Length: 2 mm; Colour: Green; PackageReference: C170GKT; ComponentLink2URL: http://media.digikey.com/pdf/Data%20Sheets/Lite-On%20PDFs/LTST-C170GKT.pdf; ComponentLink2Description: Datasheet; Supplier 1: Digikey
footprint LTST-C170GKT_V (SMD, 2-Leads, Body 2x1.25mm)
pins: 1 A, 2 K

## LED-RED-AK-2
designator DS?, comment LTST-C170CKT  Supplier Part Number 1: 160-1176-6-ND
LED Uni-Color Red, 100 mW, 200 mA, -55 to 85 degC, 2-Pin SMD, RoHS, Tape and Reel; Manufacturer: Lite-On; ComponentLink1Description: Manufacturer URL; PackageReference: C170CKT; Package Quantity: 3000; Packaging: Tape and Reel; Pins: 2; ComponentLink2URL: http://media.digikey.com/pdf/Data%20Sheets/Lite-On%20PDFs/LTST-C170CKT.pdf; Max Operating Temperature: 85 degC; Min Operating Temperature: -55 degC; ComponentLink1URL: http://www.us.liteon.com/; Mounting Technology: Surface Mount; Mount: Surface Mount; Length: 2 mm; ComponentLink2Description: Datasheet; DatasheetVersion: 03/2003; Height: 1.1 mm; PackageDescription: 2-Pin Surface Mount Device, Body 2 x 1.25 mm; RoHSCompliant: true; Colour: Red; Supplier 1: Digikey
footprint LTST-C170CKT_V (SMD, 2-Leads, Body 2x1.25mm)
pins: 1 A, 2 K

## LED-YELLOW-AK-2
designator DS?, comment LTST-C170YKT  Supplier Part Number 1: 859-LTST-C170AKT
LED Uni-Color Yellow, 60 mW, 80 mA, -55 to 85 degC, 2-Pin SMD, RoHS, Tape and Reel; Manufacturer: Lite-On; Mounting Technology: Surface Mount; Height: 1.1 mm; Mount: Surface Mount; Packaging: Tape and Reel; Length: 2 mm; RoHSCompliant: true; Colour: Yellow; Max Operating Temperature: 85 degC; PackageReference: C170YKT; ComponentLink1Description: Manufacturer URL; Min Operating Temperature: -55 degC; ComponentLink1URL: http://www.us.liteon.com/; DatasheetVersion: 03/2000; PackageDescription: 2-Pin Surface Mount Device, Body 2 x 1.25 mm; ComponentLink2URL: http://media.digikey.com/pdf/Data Sheets/Lite-On PDFs/LTST-C170YKT.pdf; Package Quantity: 3000; ComponentLink2Description: Datasheet; Pins: 2; Supplier 1: Mouser
footprint LTST-C170YKT_V (SMD, 2-Leads, Body 2x1.25mm)
pins: 1 A, 2 K

## LSM9DS1
designator IMU?, comment iNEMO IMU  Supplier Part Number 1: 497-14946-1-ND
Supplier 1: Digikey
footprint LGA-24
pins: 1 VDDIO (power), 2 SCL/SPC (in), 3 VDDIO (power), 4 SDA/SDI/SDO (io), 5 SDO_A/G (io), 6 SDO_M (io), 7 CS_A/G (in), 8 CS_M (in), 9 DRDY_M (out), 10 INT_M (in), 11 INT1_A/G (in), 12 INT2-A/G (in), 13 DEN_A/G (in), 14 RES, 15 RES, 16 RES, 17 RES, 18 RES, 19 GND (power), 20 GND (power), 21 CAP, 22 VDD (power), 23 VDD (power), 24 C1